# Altium footprint library WS-TOTV.PcbLib: 28 footprints (part 2 of 2)
Each footprint in its own frame and in the unit in brackets; x right, y up, seen from the top. Pads: shape width x height; smd on the part's side, far side on the other; paste and mask are expansions set on the pad; w line width, h text height; cw(c..) or ccw(c..) is an arc to the next point about the centre after c.
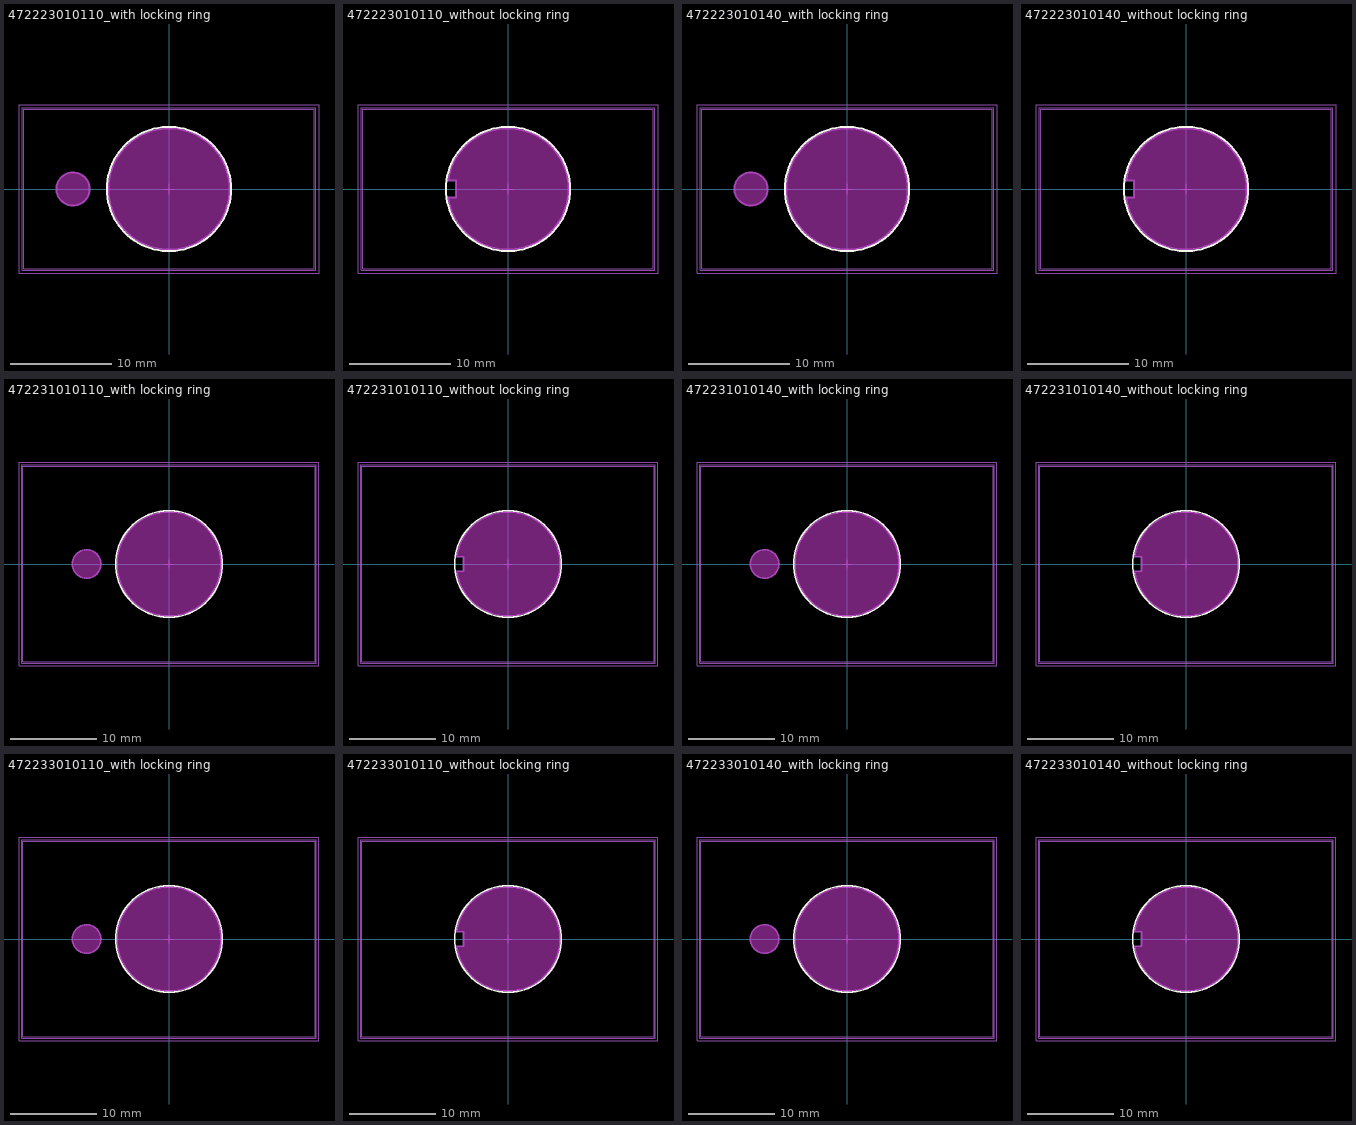
[diagram p1: the footprints below, top view; thin cyan lines are the x and y axes]

## 472223010110_with locking ring [mm]
height 50
Top Overlay:
  circle w0.2: c0,0 r6.15
Bottom Overlay:
  lines w0.2: -14.65,-8.15 -14.65,8.15 14.65,8.15 14.65,-8.15 -14.65,-8.15
Keep-Out Layer:
  board cut-out: 0,-6 -0.295,-6 -0.881,-5.942 -1.46,-5.827 -2.024,-5.656 -2.568,-5.43 -3.088,-5.153 -3.579,-4.825 -4.034,-4.451 -4.451,-4.034 -4.825,-3.579 -5.153,-3.088 -5.43,-2.568 -5.656,-2.024 -5.827,-1.46 -5.942,-0.881 -6,-0.295 -6,0 -6,0.295 -5.942,0.881 -5.827,1.46 -5.656,2.024 -5.43,2.568 -5.153,3.088 -4.825,3.579 -4.451,4.034 -4.034,4.451 -3.579,4.825 -3.088,5.153 -2.568,5.43 -2.024,5.656 -1.46,5.827 -0.881,5.942 -0.295,6 0,6 0.295,6 0.881,5.942 1.46,5.827 2.024,5.656 2.568,5.43 3.088,5.153 3.579,4.825 4.034,4.451 4.451,4.034 4.825,3.579 5.153,3.088 5.43,2.568 5.656,2.024 5.827,1.46 5.942,0.881 6,0.295 6,0 6,-0.295 5.942,-0.881 5.827,-1.46 5.656,-2.024 5.43,-2.568 5.153,-3.088 4.825,-3.579 4.451,-4.034 4.034,-4.451 3.579,-4.825 3.088,-5.153 2.568,-5.43 2.024,-5.656 1.46,-5.827 0.881,-5.942 0.295,-6
  board cut-out: -9.5,-1.65 -9.663,-1.65 -9.981,-1.587 -10.282,-1.462 -10.552,-1.282 -10.782,-1.052 -10.962,-0.782 -11.087,-0.481 -11.15,-0.163 -11.15,0 -11.15,0.163 -11.087,0.481 -10.962,0.782 -10.782,1.052 -10.552,1.282 -10.282,1.462 -9.981,1.587 -9.663,1.65 -9.5,1.65 -9.337,1.65 -9.019,1.587 -8.718,1.462 -8.448,1.282 -8.218,1.052 -8.038,0.782 -7.913,0.481 -7.85,0.163 -7.85,0 -7.85,-0.163 -7.913,-0.481 -8.038,-0.782 -8.218,-1.052 -8.448,-1.282 -8.718,-1.462 -9.019,-1.587 -9.337,-1.65
Board Shape:
  circle w0.2: c0,0 r6
  circle w0.2: c-9.5,0 r1.65
Bottom Assembly (Mech10):
  lines w0.1: -14.55,-8.05 -14.55,8.05 14.55,8.05 14.55,-8.05 -14.55,-8.05
Top Designator:
  text ".Designator" at -3.647,-0.357 h1
Top 3D Body:
  lines w0.1: -14.4,-7.9 -14.4,7.9 14.4,7.9 14.4,-7.9 -14.4,-7.9
Bottom Courtyard:
  lines w0.05: -14.85,-8.35 14.85,-8.35 14.85,8.35 -14.85,8.35 -14.85,-8.35
Top Component Center:
  lines w0.1: -0.5,0 0.5,0 ; 0,-0.5 0,0.5
3D body "472223010110.stp": height 28.63, standoff -32.1, extent -14.4,-7.9 14.4,7.9

## 472223010110_without locking ring [mm]
height 50
Top Overlay:
  circle w0.2: c0,0 r6.15
Bottom Overlay:
  lines w0.2: -14.65,-8.15 -14.65,8.15 14.65,8.15 14.65,-8.15 -14.65,-8.15
Keep-Out Layer:
  board cut-out: -5.939,-0.85 -5.886,-1.222 -5.688,-1.946 -5.401,-2.64 -5.03,-3.292 -4.58,-3.894 -4.059,-4.434 -3.475,-4.906 -2.836,-5.301 -2.153,-5.613 -1.437,-5.837 -0.698,-5.971 0.052,-6.012 0.801,-5.958 1.537,-5.812 2.249,-5.575 2.927,-5.251 3.559,-4.845 4.135,-4.364 4.647,-3.815 5.086,-3.206 5.446,-2.547 5.721,-1.848 5.906,-1.12 6,-0.375 6,0.375 5.906,1.12 5.721,1.848 5.446,2.547 5.086,3.206 4.647,3.815 4.135,4.364 3.559,4.845 2.927,5.251 2.249,5.575 1.537,5.812 0.801,5.958 0.052,6.012 -0.698,5.971 -1.437,5.837 -2.153,5.613 -2.836,5.301 -3.475,4.906 -4.059,4.434 -4.58,3.894 -5.03,3.292 -5.401,2.64 -5.688,1.946 -5.886,1.222 -5.939,0.85 -5.139,0.85 -5.139,-0.85
Board Shape:
  lines w0.2: -5.939,-0.85 ccw(c0,0) -5.939,0.85 -5.139,0.85 -5.139,-0.85 -5.939,-0.85
Bottom Assembly (Mech10):
  lines w0.1: -14.55,-8.05 -14.55,8.05 14.55,8.05 14.55,-8.05 -14.55,-8.05
Top Designator:
  text ".Designator" at -3.647,-0.357 h1
Top 3D Body:
  lines w0.1: -14.4,-7.9 -14.4,7.9 14.4,7.9 14.4,-7.9 -14.4,-7.9
Bottom Courtyard:
  lines w0.05: -14.85,-8.35 14.85,-8.35 14.85,8.35 -14.85,8.35 -14.85,-8.35
Top Component Center:
  lines w0.1: -0.5,0 0.5,0 ; 0,-0.5 0,0.5
3D body "472223010110.stp": height 28.63, standoff -32.1, extent -14.4,-7.9 14.4,7.9

## 472223010140_with locking ring [mm]
height 50
Top Overlay:
  circle w0.2: c0,0 r6.15
Bottom Overlay:
  lines w0.2: -14.65,-8.15 14.65,-8.15 14.65,8.15 -14.65,8.15 -14.65,-8.15
Keep-Out Layer:
  board cut-out: -9.5,-1.65 -9.663,-1.65 -9.981,-1.587 -10.282,-1.462 -10.552,-1.282 -10.782,-1.052 -10.962,-0.782 -11.087,-0.481 -11.15,-0.163 -11.15,0 -11.15,0.163 -11.087,0.481 -10.962,0.782 -10.782,1.052 -10.552,1.282 -10.282,1.462 -9.981,1.587 -9.663,1.65 -9.5,1.65 -9.337,1.65 -9.019,1.587 -8.718,1.462 -8.448,1.282 -8.218,1.052 -8.038,0.782 -7.913,0.481 -7.85,0.163 -7.85,0 -7.85,-0.163 -7.913,-0.481 -8.038,-0.782 -8.218,-1.052 -8.448,-1.282 -8.718,-1.462 -9.019,-1.587 -9.337,-1.65
  board cut-out: 0,-6 -0.295,-6 -0.881,-5.942 -1.46,-5.827 -2.024,-5.656 -2.568,-5.43 -3.088,-5.153 -3.579,-4.825 -4.034,-4.451 -4.451,-4.034 -4.825,-3.579 -5.153,-3.088 -5.43,-2.568 -5.656,-2.024 -5.827,-1.46 -5.942,-0.881 -6,-0.295 -6,0 -6,0.295 -5.942,0.881 -5.827,1.46 -5.656,2.024 -5.43,2.568 -5.153,3.088 -4.825,3.579 -4.451,4.034 -4.034,4.451 -3.579,4.825 -3.088,5.153 -2.568,5.43 -2.024,5.656 -1.46,5.827 -0.881,5.942 -0.295,6 0,6 0.295,6 0.881,5.942 1.46,5.827 2.024,5.656 2.568,5.43 3.088,5.153 3.579,4.825 4.034,4.451 4.451,4.034 4.825,3.579 5.153,3.088 5.43,2.568 5.656,2.024 5.827,1.46 5.942,0.881 6,0.295 6,0 6,-0.295 5.942,-0.881 5.827,-1.46 5.656,-2.024 5.43,-2.568 5.153,-3.088 4.825,-3.579 4.451,-4.034 4.034,-4.451 3.579,-4.825 3.088,-5.153 2.568,-5.43 2.024,-5.656 1.46,-5.827 0.881,-5.942 0.295,-6
Board Shape:
  circle w0.2: c-9.5,0 r1.65
  circle w0.2: c0,0 r6
Bottom Assembly (Mech10):
  lines w0.1: -14.55,-8.05 14.55,-8.05 14.55,8.05 -14.55,8.05 -14.55,-8.05
Top Designator:
  text ".Designator" at -3.647,-0.357 h1
Top 3D Body:
  lines w0.1: -14.4,-7.9 14.4,-7.9 14.4,7.9 -14.4,7.9 -14.4,-7.9
Bottom Courtyard:
  lines w0.05: -14.85,-8.35 -14.85,8.35 14.85,8.35 14.85,-8.35 -14.85,-8.35
Top Component Center:
  lines w0.1: -0.5,0 0.5,0 ; 0,-0.5 0,0.5
3D body "472223010140.stp": height 28.63, standoff -29.9, extent -14.4,-7.9 14.4,7.9

## 472223010140_without locking ring [mm]
height 50
Top Overlay:
  circle w0.2: c0,0 r6.15
Bottom Overlay:
  lines w0.2: -14.65,-8.15 -14.65,8.15 14.65,8.15 14.65,-8.15 -14.65,-8.15
Keep-Out Layer:
  board cut-out: -5.939,-0.85 -5.886,-1.222 -5.688,-1.946 -5.401,-2.64 -5.03,-3.292 -4.58,-3.894 -4.059,-4.434 -3.475,-4.906 -2.836,-5.301 -2.153,-5.613 -1.437,-5.837 -0.698,-5.971 0.052,-6.012 0.801,-5.958 1.537,-5.812 2.249,-5.575 2.927,-5.251 3.559,-4.845 4.135,-4.364 4.647,-3.815 5.086,-3.206 5.446,-2.547 5.721,-1.848 5.906,-1.12 6,-0.375 6,0.375 5.906,1.12 5.721,1.848 5.446,2.547 5.086,3.206 4.647,3.815 4.135,4.364 3.559,4.845 2.927,5.251 2.249,5.575 1.537,5.812 0.801,5.958 0.052,6.012 -0.698,5.971 -1.437,5.837 -2.153,5.613 -2.836,5.301 -3.475,4.906 -4.059,4.434 -4.58,3.894 -5.03,3.292 -5.401,2.64 -5.688,1.946 -5.886,1.222 -5.939,0.85 -5.139,0.85 -5.139,-0.85
Board Shape:
  lines w0.2: -5.939,-0.85 ccw(c0,0) -5.939,0.85 -5.139,0.85 -5.139,-0.85 -5.939,-0.85
Bottom Assembly (Mech10):
  lines w0.1: -14.55,-8.05 -14.55,8.05 14.55,8.05 14.55,-8.05 -14.55,-8.05
Top Designator:
  text ".Designator" at -3.647,-0.357 h1
Top 3D Body:
  lines w0.1: -14.4,-7.9 -14.4,7.9 14.4,7.9 14.4,-7.9 -14.4,-7.9
Bottom Courtyard:
  lines w0.05: -14.85,-8.35 14.85,-8.35 14.85,8.35 -14.85,8.35 -14.85,-8.35
Top Component Center:
  lines w0.1: -0.5,0 0.5,0 ; 0,-0.5 0,0.5
3D body "472223010140.stp": height 28.63, standoff -29.9, extent -14.4,-7.9 14.4,7.9

## 472231010110_with locking ring [mm]
height 50
Top Overlay:
  circle w0.2: c0,0 r6.15
Bottom Overlay:
  lines w0.2: -17.1,-11.55 17.1,-11.55 17.1,11.55 -17.1,11.55 -17.1,-11.55
Keep-Out Layer:
  board cut-out: -9.5,-1.65 -9.663,-1.65 -9.981,-1.587 -10.282,-1.462 -10.552,-1.282 -10.782,-1.052 -10.962,-0.782 -11.087,-0.481 -11.15,-0.163 -11.15,0 -11.15,0.163 -11.087,0.481 -10.962,0.782 -10.782,1.052 -10.552,1.282 -10.282,1.462 -9.981,1.587 -9.663,1.65 -9.5,1.65 -9.337,1.65 -9.019,1.587 -8.718,1.462 -8.448,1.282 -8.218,1.052 -8.038,0.782 -7.913,0.481 -7.85,0.163 -7.85,0 -7.85,-0.163 -7.913,-0.481 -8.038,-0.782 -8.218,-1.052 -8.448,-1.282 -8.718,-1.462 -9.019,-1.587 -9.337,-1.65
  board cut-out: 0,-6 -0.295,-6 -0.881,-5.942 -1.46,-5.827 -2.024,-5.656 -2.568,-5.43 -3.088,-5.153 -3.579,-4.825 -4.034,-4.451 -4.451,-4.034 -4.825,-3.579 -5.153,-3.088 -5.43,-2.568 -5.656,-2.024 -5.827,-1.46 -5.942,-0.881 -6,-0.295 -6,0 -6,0.295 -5.942,0.881 -5.827,1.46 -5.656,2.024 -5.43,2.568 -5.153,3.088 -4.825,3.579 -4.451,4.034 -4.034,4.451 -3.579,4.825 -3.088,5.153 -2.568,5.43 -2.024,5.656 -1.46,5.827 -0.881,5.942 -0.295,6 0,6 0.295,6 0.881,5.942 1.46,5.827 2.024,5.656 2.568,5.43 3.088,5.153 3.579,4.825 4.034,4.451 4.451,4.034 4.825,3.579 5.153,3.088 5.43,2.568 5.656,2.024 5.827,1.46 5.942,0.881 6,0.295 6,0 6,-0.295 5.942,-0.881 5.827,-1.46 5.656,-2.024 5.43,-2.568 5.153,-3.088 4.825,-3.579 4.451,-4.034 4.034,-4.451 3.579,-4.825 3.088,-5.153 2.568,-5.43 2.024,-5.656 1.46,-5.827 0.881,-5.942 0.295,-6
Board Shape:
  circle w0.2: c-9.5,0 r1.65
  circle w0.2: c0,0 r6
Bottom Assembly (Mech10):
  lines w0.1: -17,-11.45 17,-11.45 17,11.45 -17,11.45 -17,-11.45
Top Designator:
  text ".Designator" at -3.647,-0.357 h1
Top 3D Body:
  lines w0.1: -16.85,-11.3 -16.85,11.3 16.85,11.3 16.85,-11.3 -16.85,-11.3
Bottom Courtyard:
  lines w0.05: -17.3,-11.75 17.3,-11.75 17.3,11.75 -17.3,11.75 -17.3,-11.75
Top Component Center:
  lines w0.1: -0.5,0 0.5,0 ; 0,-0.5 0,0.5
3D body "472231010110.stp": height 27.38, standoff -33.35, extent -16.85,-11.3 16.85,11.3

## 472231010110_without locking ring [mm]
height 50
Top Overlay:
  circle w0.2: c0,0 r6.15
Bottom Overlay:
  lines w0.2: -17.1,-11.55 17.1,-11.55 17.1,11.55 -17.1,11.55 -17.1,-11.55
Keep-Out Layer:
  board cut-out: -5.939,-0.85 -5.886,-1.222 -5.688,-1.946 -5.401,-2.64 -5.03,-3.292 -4.58,-3.894 -4.059,-4.434 -3.475,-4.906 -2.836,-5.301 -2.153,-5.613 -1.437,-5.837 -0.698,-5.971 0.052,-6.012 0.801,-5.958 1.537,-5.812 2.249,-5.575 2.927,-5.251 3.559,-4.845 4.135,-4.364 4.647,-3.815 5.086,-3.206 5.446,-2.547 5.721,-1.848 5.906,-1.12 6,-0.375 6,0.375 5.906,1.12 5.721,1.848 5.446,2.547 5.086,3.206 4.647,3.815 4.135,4.364 3.559,4.845 2.927,5.251 2.249,5.575 1.537,5.812 0.801,5.958 0.052,6.012 -0.698,5.971 -1.437,5.837 -2.153,5.613 -2.836,5.301 -3.475,4.906 -4.059,4.434 -4.58,3.894 -5.03,3.292 -5.401,2.64 -5.688,1.946 -5.886,1.222 -5.939,0.85 -5.139,0.85 -5.139,-0.85
Board Shape:
  lines w0.2: -5.939,-0.85 ccw(c0,0) -5.939,0.85 -5.139,0.85 -5.139,-0.85 -5.939,-0.85
Bottom Assembly (Mech10):
  lines w0.1: -17,-11.45 17,-11.45 17,11.45 -17,11.45 -17,-11.45
Top Designator:
  text ".Designator" at -3.647,-0.357 h1
Top 3D Body:
  lines w0.1: -16.85,-11.3 -16.85,11.3 16.85,11.3 16.85,-11.3 -16.85,-11.3
Bottom Courtyard:
  lines w0.05: -17.3,-11.75 17.3,-11.75 17.3,11.75 -17.3,11.75 -17.3,-11.75
Top Component Center:
  lines w0.1: -0.5,0 0.5,0 ; 0,-0.5 0,0.5
3D body "472231010110.stp": height 27.38, standoff -33.35, extent -16.85,-11.3 16.85,11.3

## 472231010140_with locking ring [mm]
height 50
Top Overlay:
  circle w0.2: c0,0 r6.15
Bottom Overlay:
  lines w0.2: -17.1,-11.55 -17.1,11.55 17.1,11.55 17.1,-11.55 -17.1,-11.55
Keep-Out Layer:
  board cut-out: 0,-6 -0.295,-6 -0.881,-5.942 -1.46,-5.827 -2.024,-5.656 -2.568,-5.43 -3.088,-5.153 -3.579,-4.825 -4.034,-4.451 -4.451,-4.034 -4.825,-3.579 -5.153,-3.088 -5.43,-2.568 -5.656,-2.024 -5.827,-1.46 -5.942,-0.881 -6,-0.295 -6,0 -6,0.295 -5.942,0.881 -5.827,1.46 -5.656,2.024 -5.43,2.568 -5.153,3.088 -4.825,3.579 -4.451,4.034 -4.034,4.451 -3.579,4.825 -3.088,5.153 -2.568,5.43 -2.024,5.656 -1.46,5.827 -0.881,5.942 -0.295,6 0,6 0.295,6 0.881,5.942 1.46,5.827 2.024,5.656 2.568,5.43 3.088,5.153 3.579,4.825 4.034,4.451 4.451,4.034 4.825,3.579 5.153,3.088 5.43,2.568 5.656,2.024 5.827,1.46 5.942,0.881 6,0.295 6,0 6,-0.295 5.942,-0.881 5.827,-1.46 5.656,-2.024 5.43,-2.568 5.153,-3.088 4.825,-3.579 4.451,-4.034 4.034,-4.451 3.579,-4.825 3.088,-5.153 2.568,-5.43 2.024,-5.656 1.46,-5.827 0.881,-5.942 0.295,-6
  board cut-out: -9.5,-1.65 -9.663,-1.65 -9.981,-1.587 -10.282,-1.462 -10.552,-1.282 -10.782,-1.052 -10.962,-0.782 -11.087,-0.481 -11.15,-0.163 -11.15,0 -11.15,0.163 -11.087,0.481 -10.962,0.782 -10.782,1.052 -10.552,1.282 -10.282,1.462 -9.981,1.587 -9.663,1.65 -9.5,1.65 -9.337,1.65 -9.019,1.587 -8.718,1.462 -8.448,1.282 -8.218,1.052 -8.038,0.782 -7.913,0.481 -7.85,0.163 -7.85,0 -7.85,-0.163 -7.913,-0.481 -8.038,-0.782 -8.218,-1.052 -8.448,-1.282 -8.718,-1.462 -9.019,-1.587 -9.337,-1.65
Board Shape:
  circle w0.2: c0,0 r6
  circle w0.2: c-9.5,0 r1.65
Bottom Assembly (Mech10):
  lines w0.1: -17,-11.45 -17,11.45 17,11.45 17,-11.45 -17,-11.45
Top Designator:
  text ".Designator" at -3.647,-0.357 h1
Top 3D Body:
  lines w0.1: -16.85,-11.3 16.85,-11.3 16.85,11.3 -16.85,11.3 -16.85,-11.3
Bottom Courtyard:
  lines w0.05: -17.3,-11.75 -17.3,11.75 17.3,11.75 17.3,-11.75 -17.3,-11.75
Top Component Center:
  lines w0.1: -0.5,0 0.5,0 ; 0,-0.5 0,0.5
3D body "472231010140.stp": height 27.63, standoff -30.9, extent -16.85,-11.3 16.85,11.3

## 472231010140_without locking ring [mm]
height 50
Top Overlay:
  circle w0.2: c0,0 r6.15
Bottom Overlay:
  lines w0.2: -17.1,-11.55 -17.1,11.55 17.1,11.55 17.1,-11.55 -17.1,-11.55
Keep-Out Layer:
  board cut-out: -5.939,-0.85 -5.886,-1.222 -5.688,-1.946 -5.401,-2.64 -5.03,-3.292 -4.58,-3.894 -4.059,-4.434 -3.475,-4.906 -2.836,-5.301 -2.153,-5.613 -1.437,-5.837 -0.698,-5.971 0.052,-6.012 0.801,-5.958 1.537,-5.812 2.249,-5.575 2.927,-5.251 3.559,-4.845 4.135,-4.364 4.647,-3.815 5.086,-3.206 5.446,-2.547 5.721,-1.848 5.906,-1.12 6,-0.375 6,0.375 5.906,1.12 5.721,1.848 5.446,2.547 5.086,3.206 4.647,3.815 4.135,4.364 3.559,4.845 2.927,5.251 2.249,5.575 1.537,5.812 0.801,5.958 0.052,6.012 -0.698,5.971 -1.437,5.837 -2.153,5.613 -2.836,5.301 -3.475,4.906 -4.059,4.434 -4.58,3.894 -5.03,3.292 -5.401,2.64 -5.688,1.946 -5.886,1.222 -5.939,0.85 -5.139,0.85 -5.139,-0.85
Board Shape:
  lines w0.2: -5.939,-0.85 ccw(c0,0) -5.939,0.85 -5.139,0.85 -5.139,-0.85 -5.939,-0.85
Bottom Assembly (Mech10):
  lines w0.1: -17,-11.45 -17,11.45 17,11.45 17,-11.45 -17,-11.45
Top Designator:
  text ".Designator" at -3.647,-0.357 h1
Top 3D Body:
  lines w0.1: -16.85,-11.3 16.85,-11.3 16.85,11.3 -16.85,11.3 -16.85,-11.3
Bottom Courtyard:
  lines w0.05: -17.3,-11.75 -17.3,11.75 17.3,11.75 17.3,-11.75 -17.3,-11.75
Top Component Center:
  lines w0.1: -0.5,0 0.5,0 ; 0,-0.5 0,0.5
3D body "472231010140.stp": height 27.63, standoff -30.9, extent -16.85,-11.3 16.85,11.3

## 472233010110_with locking ring [mm]
height 50
Top Overlay:
  circle w0.2: c0,0 r6.15
Bottom Overlay:
  lines w0.2: -17.1,-11.55 -17.1,11.55 17.1,11.55 17.1,-11.55 -17.1,-11.55
Keep-Out Layer:
  board cut-out: 0,-6 -0.295,-6 -0.881,-5.942 -1.46,-5.827 -2.024,-5.656 -2.568,-5.43 -3.088,-5.153 -3.579,-4.825 -4.034,-4.451 -4.451,-4.034 -4.825,-3.579 -5.153,-3.088 -5.43,-2.568 -5.656,-2.024 -5.827,-1.46 -5.942,-0.881 -6,-0.295 -6,0 -6,0.295 -5.942,0.881 -5.827,1.46 -5.656,2.024 -5.43,2.568 -5.153,3.088 -4.825,3.579 -4.451,4.034 -4.034,4.451 -3.579,4.825 -3.088,5.153 -2.568,5.43 -2.024,5.656 -1.46,5.827 -0.881,5.942 -0.295,6 0,6 0.295,6 0.881,5.942 1.46,5.827 2.024,5.656 2.568,5.43 3.088,5.153 3.579,4.825 4.034,4.451 4.451,4.034 4.825,3.579 5.153,3.088 5.43,2.568 5.656,2.024 5.827,1.46 5.942,0.881 6,0.295 6,0 6,-0.295 5.942,-0.881 5.827,-1.46 5.656,-2.024 5.43,-2.568 5.153,-3.088 4.825,-3.579 4.451,-4.034 4.034,-4.451 3.579,-4.825 3.088,-5.153 2.568,-5.43 2.024,-5.656 1.46,-5.827 0.881,-5.942 0.295,-6
  board cut-out: -9.5,-1.65 -9.663,-1.65 -9.981,-1.587 -10.282,-1.462 -10.552,-1.282 -10.782,-1.052 -10.962,-0.782 -11.087,-0.481 -11.15,-0.163 -11.15,0 -11.15,0.163 -11.087,0.481 -10.962,0.782 -10.782,1.052 -10.552,1.282 -10.282,1.462 -9.981,1.587 -9.663,1.65 -9.5,1.65 -9.337,1.65 -9.019,1.587 -8.718,1.462 -8.448,1.282 -8.218,1.052 -8.038,0.782 -7.913,0.481 -7.85,0.163 -7.85,0 -7.85,-0.163 -7.913,-0.481 -8.038,-0.782 -8.218,-1.052 -8.448,-1.282 -8.718,-1.462 -9.019,-1.587 -9.337,-1.65
Board Shape:
  circle w0.2: c0,0 r6
  circle w0.2: c-9.5,0 r1.65
Bottom Assembly (Mech10):
  lines w0.1: -17,-11.45 -17,11.45 17,11.45 17,-11.45 -17,-11.45
Top Designator:
  text ".Designator" at -3.647,-0.357 h1
Top 3D Body:
  lines w0.1: -16.85,-11.3 16.85,-11.3 16.85,11.3 -16.85,11.3 -16.85,-11.3
Bottom Courtyard:
  lines w0.05: -17.3,-11.75 -17.3,11.75 17.3,11.75 17.3,-11.75 -17.3,-11.75
Top Component Center:
  lines w0.1: -0.5,0 0.5,0 ; 0,-0.5 0,0.5
3D body "472233010110.stp": height 28.85, standoff -33.35, extent -16.85,-11.3 16.85,11.3

## 472233010110_without locking ring [mm]
height 50
Top Overlay:
  circle w0.2: c0,0 r6.15
Bottom Overlay:
  lines w0.2: -17.1,-11.55 -17.1,11.55 17.1,11.55 17.1,-11.55 -17.1,-11.55
Keep-Out Layer:
  board cut-out: -5.939,-0.85 -5.886,-1.222 -5.688,-1.946 -5.401,-2.64 -5.03,-3.292 -4.58,-3.894 -4.059,-4.434 -3.475,-4.906 -2.836,-5.301 -2.153,-5.613 -1.437,-5.837 -0.698,-5.971 0.052,-6.012 0.801,-5.958 1.537,-5.812 2.249,-5.575 2.927,-5.251 3.559,-4.845 4.135,-4.364 4.647,-3.815 5.086,-3.206 5.446,-2.547 5.721,-1.848 5.906,-1.12 6,-0.375 6,0.375 5.906,1.12 5.721,1.848 5.446,2.547 5.086,3.206 4.647,3.815 4.135,4.364 3.559,4.845 2.927,5.251 2.249,5.575 1.537,5.812 0.801,5.958 0.052,6.012 -0.698,5.971 -1.437,5.837 -2.153,5.613 -2.836,5.301 -3.475,4.906 -4.059,4.434 -4.58,3.894 -5.03,3.292 -5.401,2.64 -5.688,1.946 -5.886,1.222 -5.939,0.85 -5.139,0.85 -5.139,-0.85
Board Shape:
  lines w0.2: -5.939,-0.85 ccw(c0,0) -5.939,0.85 -5.139,0.85 -5.139,-0.85 -5.939,-0.85
Bottom Assembly (Mech10):
  lines w0.1: -17,-11.45 -17,11.45 17,11.45 17,-11.45 -17,-11.45
Top Designator:
  text ".Designator" at -3.647,-0.357 h1
Top 3D Body:
  lines w0.1: -16.85,-11.3 16.85,-11.3 16.85,11.3 -16.85,11.3 -16.85,-11.3
Bottom Courtyard:
  lines w0.05: -17.3,-11.75 -17.3,11.75 17.3,11.75 17.3,-11.75 -17.3,-11.75
Top Component Center:
  lines w0.1: -0.5,0 0.5,0 ; 0,-0.5 0,0.5
3D body "472233010110.stp": height 28.85, standoff -33.35, extent -16.85,-11.3 16.85,11.3

## 472233010140_with locking ring [mm]
height 50
Top Overlay:
  circle w0.2: c0,0 r6.15
Bottom Overlay:
  lines w0.2: -17.1,-11.55 17.1,-11.55 17.1,11.55 -17.1,11.55 -17.1,-11.55
Keep-Out Layer:
  board cut-out: -9.5,-1.65 -9.663,-1.65 -9.981,-1.587 -10.282,-1.462 -10.552,-1.282 -10.782,-1.052 -10.962,-0.782 -11.087,-0.481 -11.15,-0.163 -11.15,0 -11.15,0.163 -11.087,0.481 -10.962,0.782 -10.782,1.052 -10.552,1.282 -10.282,1.462 -9.981,1.587 -9.663,1.65 -9.5,1.65 -9.337,1.65 -9.019,1.587 -8.718,1.462 -8.448,1.282 -8.218,1.052 -8.038,0.782 -7.913,0.481 -7.85,0.163 -7.85,0 -7.85,-0.163 -7.913,-0.481 -8.038,-0.782 -8.218,-1.052 -8.448,-1.282 -8.718,-1.462 -9.019,-1.587 -9.337,-1.65
  board cut-out: 0,-6 -0.295,-6 -0.881,-5.942 -1.46,-5.827 -2.024,-5.656 -2.568,-5.43 -3.088,-5.153 -3.579,-4.825 -4.034,-4.451 -4.451,-4.034 -4.825,-3.579 -5.153,-3.088 -5.43,-2.568 -5.656,-2.024 -5.827,-1.46 -5.942,-0.881 -6,-0.295 -6,0 -6,0.295 -5.942,0.881 -5.827,1.46 -5.656,2.024 -5.43,2.568 -5.153,3.088 -4.825,3.579 -4.451,4.034 -4.034,4.451 -3.579,4.825 -3.088,5.153 -2.568,5.43 -2.024,5.656 -1.46,5.827 -0.881,5.942 -0.295,6 0,6 0.295,6 0.881,5.942 1.46,5.827 2.024,5.656 2.568,5.43 3.088,5.153 3.579,4.825 4.034,4.451 4.451,4.034 4.825,3.579 5.153,3.088 5.43,2.568 5.656,2.024 5.827,1.46 5.942,0.881 6,0.295 6,0 6,-0.295 5.942,-0.881 5.827,-1.46 5.656,-2.024 5.43,-2.568 5.153,-3.088 4.825,-3.579 4.451,-4.034 4.034,-4.451 3.579,-4.825 3.088,-5.153 2.568,-5.43 2.024,-5.656 1.46,-5.827 0.881,-5.942 0.295,-6
Board Shape:
  circle w0.2: c-9.5,0 r1.65
  circle w0.2: c0,0 r6
Bottom Assembly (Mech10):
  lines w0.1: -17,-11.45 17,-11.45 17,11.45 -17,11.45 -17,-11.45
Top Designator:
  text ".Designator" at -3.647,-0.357 h1
Top 3D Body:
  lines w0.1: -16.85,-11.3 -16.85,11.3 16.85,11.3 16.85,-11.3 -16.85,-11.3
Bottom Courtyard:
  lines w0.05: -17.3,-11.75 -17.3,11.75 17.3,11.75 17.3,-11.75 -17.3,-11.75
Top Component Center:
  lines w0.1: -0.5,0 0.5,0 ; 0,-0.5 0,0.5
3D body "472233010140.stp": height 29.1, standoff -30.9, extent -16.85,-11.3 16.85,11.3

## 472233010140_without locking ring [mm]
height 50
Top Overlay:
  circle w0.2: c0,0 r6.15
Bottom Overlay:
  lines w0.2: -17.1,-11.55 17.1,-11.55 17.1,11.55 -17.1,11.55 -17.1,-11.55
Keep-Out Layer:
  board cut-out: -5.939,-0.85 -5.886,-1.222 -5.688,-1.946 -5.401,-2.64 -5.03,-3.292 -4.58,-3.894 -4.059,-4.434 -3.475,-4.906 -2.836,-5.301 -2.153,-5.613 -1.437,-5.837 -0.698,-5.971 0.052,-6.012 0.801,-5.958 1.537,-5.812 2.249,-5.575 2.927,-5.251 3.559,-4.845 4.135,-4.364 4.647,-3.815 5.086,-3.206 5.446,-2.547 5.721,-1.848 5.906,-1.12 6,-0.375 6,0.375 5.906,1.12 5.721,1.848 5.446,2.547 5.086,3.206 4.647,3.815 4.135,4.364 3.559,4.845 2.927,5.251 2.249,5.575 1.537,5.812 0.801,5.958 0.052,6.012 -0.698,5.971 -1.437,5.837 -2.153,5.613 -2.836,5.301 -3.475,4.906 -4.059,4.434 -4.58,3.894 -5.03,3.292 -5.401,2.64 -5.688,1.946 -5.886,1.222 -5.939,0.85 -5.139,0.85 -5.139,-0.85
Board Shape:
  lines w0.2: -5.939,-0.85 ccw(c0,0) -5.939,0.85 -5.139,0.85 -5.139,-0.85 -5.939,-0.85
Bottom Assembly (Mech10):
  lines w0.1: -17,-11.45 17,-11.45 17,11.45 -17,11.45 -17,-11.45
Top Designator:
  text ".Designator" at -3.647,-0.357 h1
Top 3D Body:
  lines w0.1: -16.85,-11.3 -16.85,11.3 16.85,11.3 16.85,-11.3 -16.85,-11.3
Bottom Courtyard:
  lines w0.05: -17.3,-11.75 -17.3,11.75 17.3,11.75 17.3,-11.75 -17.3,-11.75
Top Component Center:
  lines w0.1: -0.5,0 0.5,0 ; 0,-0.5 0,0.5
3D body "472233010140.stp": height 29.1, standoff -30.9, extent -16.85,-11.3 16.85,11.3